# Altium schematic symbol library SamacSys.SchLib: 1281 symbols (part 3 of 13)
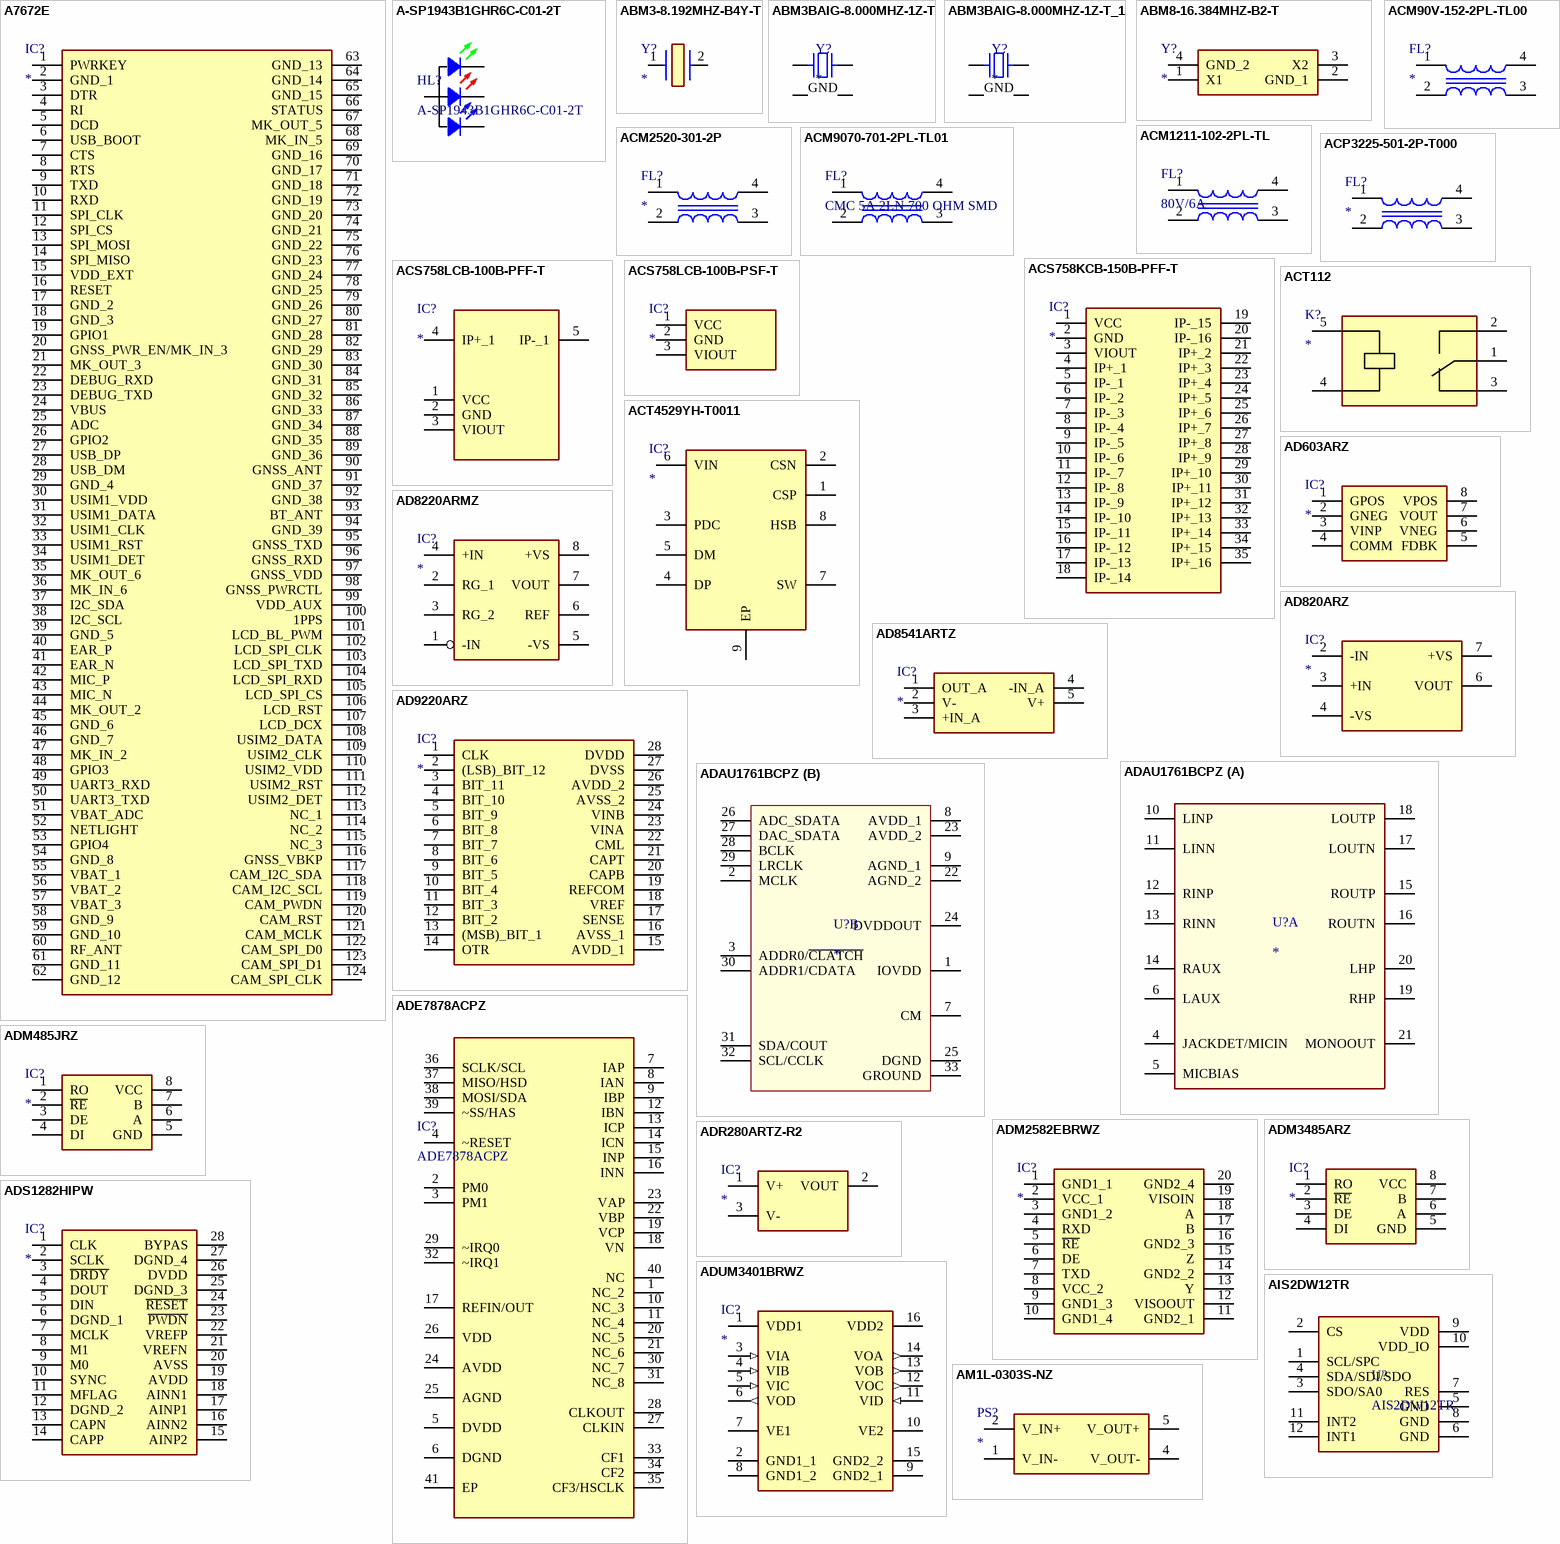
[diagram p49: symbols A7672E to AM1L-0303S-NZ]

## ABM8-16.384MHZ-B2-T
designator Y?
CRYSTAL 16.3840MHZ 18PF SMD; Manufacturer_Name: ABRACON; Manufacturer_Part_Number: ABM8-16.384MHZ-B2-T; Datasheet Link: https://abracon.com/Resonators/abm8.pdf; Height: 0.8mm; Mouser Part Number: 815-ABM8-16.3-B2-T; Mouser Price/Stock: https://www.mouser.com/Search/Refine.aspx?Keyword=815-ABM8-16.3-B2-T; Arrow Part Number: ABM8-16.384MHZ-B2-T; Arrow Price/Stock: https://www.arrow.com/en/products/abm8-16.384mhz-b2-t/abracon
footprint ABM810000MHZ12D2W
pins: 1 X1, 2 GND_1, 3 X2, 4 GND_2

## ACM90V-152-2PL-TL00
designator FL?
CMC 3.6A 2LN 1.5KOHM SMD AECQ200; Manufacturer_Name: TDK; Manufacturer_Part_Number: ACM90V-152-2PL-TL00; Datasheet Link: https://product.tdk.com/system/files/dam/doc/product/emc/emc/cmf_cmc/catalog/cmf_automotive_power_acm90v_en.pdf; Height: 4.5mm; Mouser Part Number: 810-ACM90V1522PLTL00; Mouser Price/Stock: https://www.mouser.co.uk/ProductDetail/TDK/ACM90V-152-2PL-TL00?qs=aP1CjGhiNiEACQpWe48DZw%3D%3D; Arrow Part Number: ACM90V-152-2PL-TL00; Arrow Price/Stock: https://www.arrow.com/en/products/acm90v-152-2pl-tl00/tdk?region=nac
footprint ACM90V1522PLTL00
pins: 1, 2, 3, 4

## ACM1211-102-2PL-TL
designator FL?, comment 80V/6A
CMC 6A 2LN 1 KOHM SURFACE MOUNT; Manufacturer_Name: TDK; Manufacturer_Part_Number: ACM1211-102-2PL-TL; Datasheet Link: https://product.tdk.com/en/system/files?file=dam/doc/product/emc/emc/cmf_cmc/catalog/cmf_commercial_power_acm1211_en.pdf; Height: 6mm; Mouser Part Number: 810-ACM12111022PL-TL; Mouser Price/Stock: https://www.mouser.co.uk/ProductDetail/TDK/ACM1211-102-2PL-TL?qs=ocbKuxF7esQBZME23J%252BWGA%3D%3D
footprint ACM1211
pins: 1, 2, 3, 4

## ACM2520-301-2P
designator FL?
CMC 400MA 2LN 300 OHM SMD; Manufacturer_Name: TDK; Manufacturer_Part_Number: ACM2520-301-2P; Datasheet Link: https://product.tdk.com/info/en/catalog/datasheets/cmf_commercial_signal_acm2520_en.pdf; Height: 1.3mm; Mouser Part Number: 810-ACM2520-301-2P-T; Mouser Price/Stock: https://www.mouser.co.uk/ProductDetail/TDK/ACM2520-301-2P?qs=80T3JVN997BA57SdZHkDRA%3D%3D
footprint ACM25203012P
pins: 1, 2, 3, 4

## ACM9070-701-2PL-TL01
designator FL?, comment CMC 5A 2LN 700 OHM SMD
Manufacturer_Name: TDK; Manufacturer_Part_Number: ACM9070-701-2PL-TL01; Datasheet Link: https://product.tdk.com/system/files/dam/doc/product/emc/emc/cmf_cmc/catalog/cmf_commercial_power_acm9070_en.pdf; Height: 4.5mm; Mouser Part Number: 810-ACM90707012PLTL; Mouser Price/Stock: https://www.mouser.co.uk/ProductDetail/TDK/ACM9070-701-2PL-TL01?qs=vGA93s6UehfkQlsVzBqdDg%3D%3D; Arrow Part Number: ACM9070-701-2PL-TL01; Arrow Price/Stock: https://www.arrow.com/en/products/acm9070-701-2pl-tl01/tdk?region=nac
footprint ACM90707012PLTL01
pins: 1, 2, 3, 4

## ACP3225-501-2P-T000
designator FL?
CMC 2A 2LN 500 OHM SMD; Manufacturer_Name: TDK; Manufacturer_Part_Number: ACP3225-501-2P-T000; Datasheet Link: https://product.tdk.com/system/files/dam/doc/product/emc/emc/cmf_cmc/catalog/cmf_commercial_power_acp3225_en.pdf; Height: 2mm; Mouser Part Number: 810-ACP32255012PT000; Mouser Price/Stock: https://www.mouser.co.uk/ProductDetail/TDK/ACP3225-501-2P-T000?qs=ae3V9ailvLRShxfxfUSgvA%3D%3D; Arrow Part Number: ACP3225-501-2P-T000; Arrow Price/Stock: https://www.arrow.com/en/products/acp3225-501-2p-t000/tdk?region=nac
footprint ACP32251022PT000
pins: 1, 2, 3, 4

## ACS758KCB-150B-PFF-T
designator IC?
CURRENT SENSOR HE/OL 150A 5-CB; Manufacturer_Name: Allegro Microsystems; Manufacturer_Part_Number: ACS758KCB-150B-PFF-T; Datasheet Link: https://www.allegromicro.com/-/media/files/datasheets/acs758-datasheet.ashx; Height: 7.1mm; Mouser Part Number: 250-758KCB150BPFFT; Mouser Price/Stock: https://www.mouser.co.uk/ProductDetail/Allegro-MicroSystems/ACS758KCB-150B-PFF-T?qs=pUKx8fyJudBgqu%2FWnSJV7w%3D%3D; Arrow Part Number: ACS758KCB-150B-PFF-T; Arrow Price/Stock: https://www.arrow.com/en/products/acs758kcb-150b-pff-t/allegro-microsystems?region=nac
footprint ACS772ECB200BPFFT
pins: 1 VCC, 2 GND, 3 VIOUT, 4 IP+_1, 5 IP-_1, 6 IP-_2, 7 IP-_3, 8 IP-_4, 9 IP-_5, 10 IP-_6, 11 IP-_7, 12 IP-_8, 13 IP-_9, 14 IP-_10, 15 IP-_11, 16 IP-_12, 17 IP-_13, 18 IP-_14, 19 IP-_15, 20 IP-_16, 21 IP+_2, 22 IP+_3, 23 IP+_4, 24 IP+_5, 25 IP+_6, 26 IP+_7, 27 IP+_8, 28 IP+_9, 29 IP+_10, 30 IP+_11, 31 IP+_12, 32 IP+_13, 33 IP+_14, 34 IP+_15, 35 IP+_16

## ACS758LCB-100B-PFF-T
designator IC?
CURRENT SENSOR HE/OL 100A 5-CB; Manufacturer_Name: Allegro Microsystems; Manufacturer_Part_Number: ACS758LCB-100B-PFF-T; Datasheet Link: https://www.allegromicro.com/-/media/files/datasheets/acs758-datasheet.ashx; Height: 7.1mm; Mouser Part Number: 250-758LCB100BPFFT; Mouser Price/Stock: https://www.mouser.co.uk/ProductDetail/Allegro-MicroSystems/ACS758LCB-100B-PFF-T?qs=pUKx8fyJudA0WtlqV%2Fcrcw%3D%3D; Arrow Part Number: ACS758LCB-100B-PFF-T; Arrow Price/Stock: https://www.arrow.com/en/products/acs758lcb-100b-pff-t/allegro-microsystems?region=nac
footprint ACS772ECB200BPFFT; pin to pad 4>4+6+7+8+9+10+11+12+13+14+15+16+17+18+19+20+21 5>5+22+23+24+25+26+27+28+29+30+31+32+33+34+35+36+37
pins: 1 VCC, 2 GND, 3 VIOUT, 4 IP+_1, 5 IP-_1

## ACS758LCB-100B-PSF-T
designator IC?
Integrated Circuit; Manufacturer_Name: Allegro Microsystems; Manufacturer_Part_Number: ACS758LCB-100B-PSF-T; Datasheet Link: https://www.allegromicro.com/-/media/files/datasheets/acs758-datasheet.ashx; Height: 7.1mm
footprint ACS758LCB100BPSFT
pins: 1 VCC, 2 GND, 3 VIOUT

## ACT112
designator K?
RELAY AUTOMOTIVE SPDT 20A 12V; Manufacturer_Name: Panasonic; Manufacturer_Part_Number: ACT112; Datasheet Link: https://www.panasonic-electric-works.com/pew/eu/downloads/ds_61205_en_ct.pdf; Height: 13.8mm; Mouser Part Number: 769-ACT112; Mouser Price/Stock: https://www.mouser.co.uk/ProductDetail/Panasonic-Industrial-Devices/ACT112?qs=sEN%2FkO1EG6bpxl3iN8ki5w%3D%3D; Arrow Part Number: ACT112; Arrow Price/Stock: https://www.arrow.com/en/products/act112/panasonic?region=nac
footprint ACT112
pins: 1 COM, 2 NO, 3 NC, 4 COIL_1, 5 COIL_2

## ACT4529YH-T0011
designator IC?
IC REG BUCK PROG 3A 8SOP; Manufacturer_Name: Active-Semi; Manufacturer_Part_Number: ACT4529YH-T0011; Datasheet Link: https://componentsearchengine.com/Datasheets/1/ACT4529YH-T0011.pdf; Height: 1.727mm; Mouser Part Number: 107-ACT4529YH-T0011; Mouser Price/Stock: https://www.mouser.com/Search/Refine.aspx?Keyword=107-ACT4529YH-T0011; Arrow Part Number: ACT4529YH-T0011; Arrow Price/Stock: https://www.arrow.com/en/products/act4529yh-t0011/active-semi-inc
footprint SOIC127P600X173-9N
pins: 1 CSP, 2 CSN, 3 PDC, 4 DP, 5 DM, 6 VIN, 7 SW, 8 HSB, 9 EP

## AD603ARZ
designator IC?
IC VARIABLE GAIN 1 CIRCUIT 8SOIC; Manufacturer_Name: Analog Devices; Manufacturer_Part_Number: AD603ARZ; Datasheet Link: http://www.analog.com/static/imported-files/data_sheets/AD603.pdf; Height: 1.75mm; Mouser Part Number: 584-AD603ARZ; Mouser Price/Stock: https://www.mouser.co.uk/ProductDetail/Analog-Devices/AD603ARZ?qs=NmRFExCfTkG1J%2FcwDGZAtw%3D%3D; Arrow Part Number: AD603ARZ; Arrow Price/Stock: https://www.arrow.com/en/products/ad603arz/analog-devices?utm_currency=USD&region=europe
footprint SOIC127P600X175-8N
pins: 1 GPOS, 2 GNEG, 3 VINP, 4 COMM, 5 FDBK, 6 VNEG, 7 VOUT, 8 VPOS

## AD820ARZ
designator IC?
IC OPAMP JFET 1 CIRCUIT 8SOIC; Manufacturer_Name: Analog Devices; Manufacturer_Part_Number: AD820ARZ; Datasheet Link: http://www.analog.com/static/imported-files/data_sheets/AD820.pdf; Height: 1.75mm; Mouser Part Number: 584-AD820ARZ; Mouser Price/Stock: https://www.mouser.co.uk/ProductDetail/Analog-Devices/AD820ARZ?qs=%2FtpEQrCGXCz5MA49ylSgWA%3D%3D; Arrow Part Number: AD820ARZ; Arrow Price/Stock: https://www.arrow.com/en/products/ad820arz/analog-devices?region=nac
footprint SOIC127P600X175-8N
pins: 2 -IN, 3 +IN, 4 -VS, 6 VOUT, 7 +VS

## AD8220ARMZ
designator IC?
IC INST AMP 1 CIRCUIT 8MSOP; Manufacturer_Name: Analog Devices; Manufacturer_Part_Number: AD8220ARMZ; Datasheet Link: http://www.analog.com/static/imported-files/data_sheets/AD8220.pdf; Height: 1.1mm; Mouser Part Number: 584-AD8220ARMZ; Mouser Price/Stock: https://www.mouser.co.uk/ProductDetail/Analog-Devices/AD8220ARMZ?qs=%2FtpEQrCGXCySRYIeTivM6A%3D%3D; Arrow Part Number: AD8220ARMZ; Arrow Price/Stock: https://www.arrow.com/en/products/ad8220armz/analog-devices?region=nac
footprint SOP65P490X110-8N
pins: 1 -IN, 2 RG_1, 3 RG_2, 4 +IN, 5 -VS, 6 REF, 7 VOUT, 8 +VS

## AD8541ARTZ
designator IC?
Integrated Circuit; Manufacturer_Name: Analog Devices; Manufacturer_Part_Number: AD8541ARTZ; Datasheet Link: https://www.analog.com/media/en/technical-documentation/data-sheets/AD8541_8542_8544.pdf; Height: 1.45mm; Mouser Part Number: N/A; Mouser Price/Stock: https://www.mouser.co.uk/ProductDetail/Analog-Devices/AD8541ARTZ?qs=%252BEew9%252B0nqrCjC57Pkc8fXg%3D%3D
footprint SOT95P280X145-5N
pins: 1 OUT_A, 2 V-, 3 +IN_A, 4 -IN_A, 5 V+

## AD9220ARZ
designator IC?
IC ADC 12BIT 28-SOIC; Manufacturer_Name: Analog Devices; Manufacturer_Part_Number: AD9220ARZ; Datasheet Link: https://datasheet.datasheetarchive.com/originals/distributors/Datasheets-4/DSA-69075.pdf; Height: 2.65mm; Mouser Part Number: 584-AD9220ARZ; Mouser Price/Stock: https://www.mouser.co.uk/ProductDetail/Analog-Devices/AD9220ARZ?qs=%2FtpEQrCGXCy11bvQnCe8cA%3D%3D; Arrow Part Number: AD9220ARZ; Arrow Price/Stock: https://www.arrow.com/en/products/ad9220arz/analog-devices?utm_currency=USD&region=nac
footprint SOIC127P1032X265-28N
pins: 1 CLK, 2 (LSB)_BIT_12, 3 BIT_11, 4 BIT_10, 5 BIT_9, 6 BIT_8, 7 BIT_7, 8 BIT_6, 9 BIT_5, 10 BIT_4, 11 BIT_3, 12 BIT_2, 13 (MSB)_BIT_1, 14 OTR, 15 AVDD_1, 16 AVSS_1, 17 SENSE, 18 VREF, 19 REFCOM, 20 CAPB, 21 CAPT, 22 CML, 23 VINA, 24 VINB, 25 AVSS_2, 26 AVDD_2, 27 DVSS, 28 DVDD

## ADAU1761BCPZ
designator U?
IC SIGMADSP CODEC PLL 32LFCSP; Manufacturer_Name: Analog Devices; Manufacturer_Part_Number: ADAU1761BCPZ; Datasheet Link: http://www.analog.com/static/imported-files/data_sheets/ADAU1761.pdf; Height: 1mm; Mouser Part Number: 584-ADAU1761BCPZ; Mouser Price/Stock: https://www.mouser.co.uk/ProductDetail/Analog-Devices/ADAU1761BCPZ?qs=BpaRKvA4VqECOs97DVLeWA%3D%3D; Arrow Part Number: ADAU1761BCPZ; Arrow Price/Stock: https://www.arrow.com/en/products/adau1761bcpz/analog-devices
footprint QFN50P500X500X100-33N-D
part A pins: 4 JACKDET/MICIN, 5 MICBIAS, 6 LAUX, 10 LINP, 11 LINN, 12 RINP, 13 RINN, 14 RAUX, 15 ROUTP, 16 ROUTN, 17 LOUTN, 18 LOUTP, 19 RHP, 20 LHP, 21 MONOOUT
part B pins: 1 IOVDD, 2 MCLK, 3 ADDR0/~{CLATCH}, 7 CM, 8 AVDD_1, 9 AGND_1, 22 AGND_2, 23 AVDD_2, 24 DVDDOUT, 25 DGND, 26 ADC_SDATA, 27 DAC_SDATA, 28 BCLK, 29 LRCLK, 30 ADDR1/CDATA, 31 SDA/COUT, 32 SCL/CCLK, 33 GROUND

## ADE7878ACPZ
designator IC?
IC ENERGY METERING 3PH 40LFCSP; Manufacturer_Name: Analog Devices; Datasheet Link: https://www.analog.com/static/imported-files/data_sheets/ADE7854_7858_7868_7878.pdf; Manufacturer_Part_Number: ADE7878ACPZ
footprint QFN50P600X600X80-41N
pins: 1 NC_2, 2 PM0, 3 PM1, 4 ~RESET, 5 DVDD, 6 DGND, 7 IAP, 8 IAN, 9 IBP, 10 NC_3, 11 NC_4, 12 IBN, 13 ICP, 14 ICN, 15 INP, 16 INN, 17 REFIN/OUT, 18 VN, 19 VCP, 20 NC_5, 21 NC_6, 22 VBP, 23 VAP, 24 AVDD, 25 AGND, 26 VDD, 27 CLKIN, 28 CLKOUT, 29 ~IRQ0, 30 NC_7, 31 NC_8, 32 ~IRQ1, 33 CF1, 34 CF2, 35 CF3/HSCLK, 36 SCLK/SCL, 37 MISO/HSD, 38 MOSI/SDA, 39 ~SS/HAS, 40 NC, 41 EP

## ADM485JRZ
designator IC?
IC TRANSCEIVER HALF 1/1 8SOIC; Manufacturer_Name: Analog Devices; Manufacturer_Part_Number: ADM485JRZ; Datasheet Link: http://www.analog.com/media/en/technical-documentation/data-sheets/ADM485.pdf; Height: 1.75mm; Mouser Part Number: 584-ADM485JRZ; Mouser Price/Stock: https://www.mouser.co.uk/ProductDetail/Analog-Devices/ADM485JRZ?qs=BpaRKvA4VqEZOGREW%252B%2F6Lg%3D%3D; Arrow Part Number: ADM485JRZ; Arrow Price/Stock: https://www.arrow.com/en/products/adm485jrz/analog-devices?region=europe
footprint SOIC127P600X175-8N
pins: 1 RO, 2 ~{RE}, 3 DE, 4 DI, 5 GND (power), 6 A, 7 B, 8 VCC (power)

## ADM2582EBRWZ
designator IC?
DG ISO 2.5KV 2CH RS422 20-SOIC; Manufacturer_Name: Analog Devices; Manufacturer_Part_Number: ADM2582EBRWZ; Datasheet Link: http://www.analog.com/static/imported-files/data_sheets/ADM2582E_2587E.pdf; Height: 2.65mm; Mouser Part Number: 584-ADM2582EBRWZ; Mouser Price/Stock: https://www.mouser.co.uk/ProductDetail/Analog-Devices/ADM2582EBRWZ?qs=BpaRKvA4VqEUmXw45IunQg%3D%3D; Arrow Part Number: ADM2582EBRWZ; Arrow Price/Stock: https://www.arrow.com/en/products/adm2582ebrwz/analog-devices?region=nac
footprint SOIC127P1032X265-20N
pins: 1 GND1_1, 2 VCC_1, 3 GND1_2, 4 RXD, 5 ~{RE}, 6 DE, 7 TXD, 8 VCC_2, 9 GND1_3, 10 GND1_4, 11 GND2_1, 12 VISOOUT, 13 Y, 14 GND2_2, 15 Z, 16 GND2_3, 17 B, 18 A, 19 VISOIN, 20 GND2_4

## ADM3485ARZ
designator IC?
IC TRANSCEIVER HALF 1/1 8SOIC; Manufacturer_Name: Analog Devices; Manufacturer_Part_Number: ADM3485ARZ; Datasheet Link: https://datasheet.datasheetarchive.com/originals/distributors/SFDatasheet-4/sf-00085393.pdf; Height: 1.75mm; Mouser Part Number: 584-ADM3485ARZ; Mouser Price/Stock: https://www.mouser.co.uk/ProductDetail/Analog-Devices/ADM3485ARZ?qs=BpaRKvA4VqFcLMPh5cVl%252BQ%3D%3D; Arrow Part Number: ADM3485ARZ; Arrow Price/Stock: https://www.arrow.com/en/products/adm3485arz/analog-devices?region=nac
footprint SOIC127P600X175-8N
pins: 1 RO, 2 ~{RE}, 3 DE, 4 DI, 5 GND, 6 A, 7 B, 8 VCC

## ADR280ARTZ-R2
designator IC?
IC VREF SERIES 0.4% SOT23-3; Manufacturer_Name: Analog Devices; Manufacturer_Part_Number: ADR280ARTZ-R2; Datasheet Link: https://datasheet.datasheetarchive.com/originals/distributors/Datasheets-4/DSA-69798.pdf; Height: 1.12mm; Mouser Part Number: 584-ADR280ARTZ-R2; Mouser Price/Stock: https://www.mouser.co.uk/ProductDetail/Analog-Devices/ADR280ARTZ-R2?qs=WIvQP4zGanjt6CxkfGppYQ%3D%3D; Arrow Part Number: ADR280ARTZ-R2; Arrow Price/Stock: https://www.arrow.com/en/products/adr280artz-r2/analog-devices
footprint SOT95P237X112-3N
pins: 1 V+, 2 VOUT, 3 V-

## ADS1282HIPW
designator IC?
IC ADC 31BIT 28-TSSOP; Manufacturer_Name: Texas Instruments; Manufacturer_Part_Number: ADS1282HIPW; Datasheet Link: https://www.arrow.com/en/products/ads1282hipw/texas-instruments; Height: 1.2mm; Mouser Part Number: 595-ADS1282HIPW; Mouser Price/Stock: https://www.mouser.co.uk/ProductDetail/Texas-Instruments/ADS1282HIPW?qs=q7C8cbBu1SuIofeJHyiP4Q%3D%3D; Arrow Part Number: ADS1282HIPW; Arrow Price/Stock: https://www.arrow.com/en/products/ads1282hipw/texas-instruments?region=nac
footprint SOP65P640X120-28N
pins: 1 CLK, 2 SCLK, 3 ~{DRDY}, 4 DOUT, 5 DIN, 6 DGND_1, 7 MCLK, 8 M1, 9 M0, 10 SYNC, 11 MFLAG, 12 DGND_2, 13 CAPN, 14 CAPP, 15 AINP2, 16 AINN2, 17 AINP1, 18 AINN1, 19 AVDD, 20 AVSS, 21 VREFN, 22 VREFP, 23 ~{PWDN}, 24 ~{RESET}, 25 DGND_3, 26 DVDD, 27 DGND_4, 28 BYPAS

## ADUM3401BRWZ
designator IC?
DGTL ISOLTR 2.5KV 4CH GP 16-SOIC; Manufacturer_Name: Analog Devices; Manufacturer_Part_Number: ADUM3401BRWZ; Datasheet Link: https://www.analog.com/media/en/technical-documentation/data-sheets/ADUM3400_3401_3402.pdf; Height: 2.65mm; Mouser Part Number: 584-ADUM3401BRWZ; Mouser Price/Stock: https://www.mouser.co.uk/ProductDetail/Analog-Devices/ADUM3401BRWZ?qs=WIvQP4zGania91kS8CV22w%3D%3D; Arrow Part Number: ADUM3401BRWZ; Arrow Price/Stock: https://www.arrow.com/en/products/adum3401brwz/analog-devices?region=europe
footprint SOIC127P1032X265-16N
pins: 1 VDD1, 2 GND1_1, 3 VIA (in), 4 VIB (in), 5 VIC (in), 6 VOD (out), 7 VE1, 8 GND1_2, 9 GND2_1, 10 VE2, 11 VID (in), 12 VOC (out), 13 VOB (out), 14 VOA (out), 15 GND2_2, 16 VDD2

## AIS2DW12TR
designator U?
MEMS DIGITAL OUTPUT MOTION SENSO; Manufacturer_Name: Texas Instruments; Manufacturer_Part_Number: BQ27220YZFR; Datasheet Link: http://www.ti.com/lit/ds/symlink/bq27220.pdf; Height: 0.625mm; Mouser Part Number: 595-BQ27220YZFR; Mouser Price/Stock: https://www.mouser.co.uk/ProductDetail/Texas-Instruments/BQ27220YZFR/?qs=dSktwyqbRaX%252B5G1xe9oNWw%3D%3D; Arrow Part Number: BQ27220YZFR; Arrow Price/Stock: https://www.arrow.com/en/products/bq27220yzfr/texas-instruments
footprint LGA-12
pins: 1 SCL/SPC, 2 CS, 3 SDO/SA0, 4 SDA/SDI/SDO, 5 GND, 6 GND, 7 RES, 8 GND, 9 VDD, 10 VDD_IO, 11 INT2, 12 INT1

## AM1L-0303S-NZ
designator PS?
Power Supply; Manufacturer_Name: aimtec; Manufacturer_Part_Number: AM1L-0303S-NZ; Datasheet Link: http://www.aimtec.com/site/Aimtec/files/Datasheet/HighResolution/AM1L-N-Z.pdf; Height: 6.5mm; Arrow Part Number: AM1L-0303S-NZ; Arrow Price/Stock: https://www.arrow.com/en/products/am1l-0505s-nz/aimtec?region=europe
footprint SOP254P1120X650-8N
pins: 1 V_IN-, 2 V_IN+, 4 V_OUT-, 5 V_OUT+

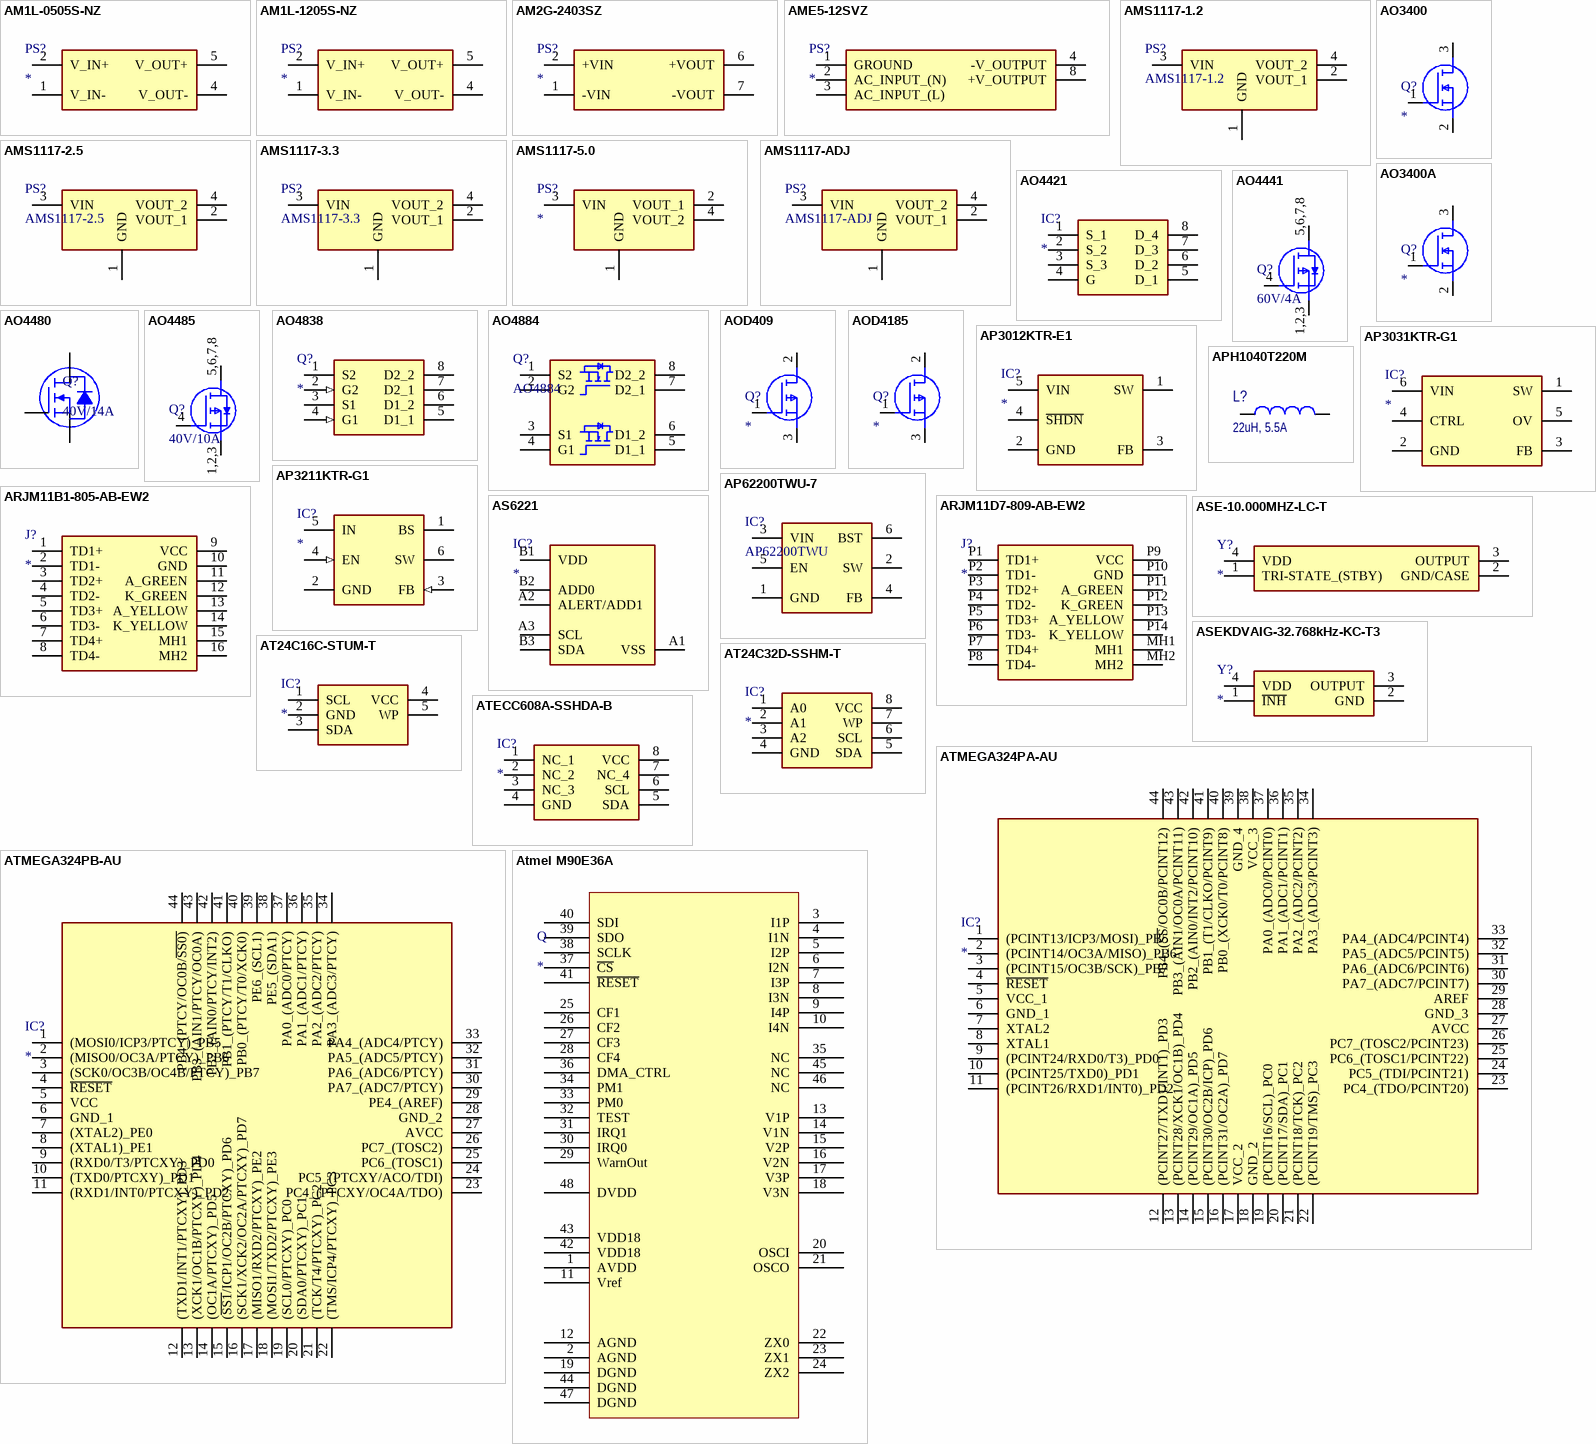
[diagram p8: symbols AM1L-0505S-NZ to Atmel M90E36A]

## AM1L-0505S-NZ
designator PS?
DC DC CONVERTER 5V 1W; Manufacturer_Name: aimtec; Manufacturer_Part_Number: AM1L-0505S-NZ; Datasheet Link: http://www.aimtec.com/site/Aimtec/files/Datasheet/HighResolution/AM1L-N-Z.pdf; Height: 6.5mm; Arrow Part Number: AM1L-0505S-NZ; Arrow Price/Stock: https://www.arrow.com/en/products/am1l-0505s-nz/aimtec?region=europe
footprint SOP254P1120X650-8N
pins: 1 V_IN-, 2 V_IN+, 4 V_OUT-, 5 V_OUT+

## AM1L-1205S-NZ
designator PS?
Power Supply; Manufacturer_Name: aimtec; Manufacturer_Part_Number: AM1L-0505S-NZ; Datasheet Link: http://www.aimtec.com/site/Aimtec/files/Datasheet/HighResolution/AM1L-N-Z.pdf; Height: 6.5mm; Arrow Part Number: AM1L-0505S-NZ; Arrow Price/Stock: https://www.arrow.com/en/products/am1l-0505s-nz/aimtec?region=europe
footprint SOP254P1120X650-8N
pins: 1 V_IN-, 2 V_IN+, 4 V_OUT-, 5 V_OUT+

## AM2G-2403SZ
designator PS?
DC DC CONVERTER 3.3V 1.7W; Manufacturer_Name: Traco Power; Manufacturer_Part_Number: TMH 2403D; Datasheet Link: https://tracopower.com/tmh-datasheet/; Height: 10.45mm; Mouser Part Number: 495-TMH-2405D; Mouser Price/Stock: https://www.mouser.co.uk/ProductDetail/TRACO-Power/TMH-2405D?qs=ckJk83FOD0W%2FmAmjgWBCtw%3D%3D
footprint AIMTEC-AM2G-Z
pins: 1 -VIN, 2 +VIN, 6 +VOUT, 7 -VOUT

## AME5-12SVZ
designator PS?
Power Supply; Manufacturer_Name: aimtec; Manufacturer_Part_Number: AME5-12SVZ; Datasheet Link: https://4donline.ihs.com/images/VipMasterIC/IC/AIMT/AIMT-S-A0007965935/AIMT-S-A0007965935-1.pdf?hkey=EF798316E3902B6ED9A73243A3159BB0; Height: 21mm
footprint AME512SVZ
pins: 1 GROUND, 2 AC_INPUT_(N), 3 AC_INPUT_(L), 4 -V_OUTPUT, 8 +V_OUTPUT

## AMS1117-1.2
designator PS?
IC REG LINEAR 1.2V 1A SOT-223-3L; Manufacturer_Name: Advanced Monolithic Systems; Datasheet Link: http://www.advanced-monolithic.com/pdf/ds1117.pdf; Height: 1.8mm; Manufacturer_Part_Number: AMS1117-1.2
footprint SOT229P700X180-4N
pins: 1 GND, 2 VOUT_1, 3 VIN, 4 VOUT_2

## AMS1117-2.5
designator PS?
IC REG LINEAR 2.5V 1A SOT-223-3L; Manufacturer_Name: Advanced Monolithic Systems; Datasheet Link: http://www.advanced-monolithic.com/pdf/ds1117.pdf; Height: 1.8mm; Manufacturer_Part_Number: AMS1117-2.5
footprint SOT229P700X180-4N
pins: 1 GND, 2 VOUT_1, 3 VIN, 4 VOUT_2

## AMS1117-3.3
designator PS?
LDO regulator; Manufacturer_Name: Advanced Monolithic Systems; Datasheet Link: http://www.advanced-monolithic.com/pdf/ds1117.pdf; Height: 1.8mm; Manufacturer_Part_Number: AMS1117-3.3
footprint SOT229P700X180-4N
pins: 1 GND, 2 VOUT_1, 3 VIN, 4 VOUT_2

## AMS1117-5.0
designator PS?
IC REG LINEAR 5.1V 1A SOT-223-3L; Manufacturer_Name: Advanced Monolithic Systems; Manufacturer_Part_Number: AMS1117-5.0; Datasheet Link: http://www.advanced-monolithic.com/pdf/ds1117.pdf; Height: 1.8mm
footprint SOT230P700X180-4N
pins: 1 GND, 2 VOUT_1, 3 VIN, 4 VOUT_2

## AMS1117-ADJ
designator PS?
IC REG LINEAR 10.7V 1A SOT-223-3; Manufacturer_Name: Advanced Monolithic Systems; Datasheet Link: http://www.advanced-monolithic.com/pdf/ds1117.pdf; Height: 1.8mm; Manufacturer_Part_Number: AMS1117-ADJ
footprint SOT229P700X180-4N
pins: 1 GND, 2 VOUT_1, 3 VIN, 4 VOUT_2

## AO3400
designator Q?
MOSFET N-CH 30V 5.8A SOT23-3; Manufacturer_Name: Alpha & Omega Semiconductors; Manufacturer_Part_Number: AO3400; Datasheet Link: http://aosmd.com/res/data_sheets/AO3400.pdf; Height: 1.25mm; Arrow Part Number: AO3400; Arrow Price/Stock: https://www.arrow.com/en/products/ao3400/alpha-and-omega-semiconductor?region=asia
footprint SOT95P280X125-3N
pins: 1 G, 2 S, 3 D

## AO3400A
designator Q?
MOSFET (N-Channel); Manufacturer_Name: Alpha & Omega Semiconductors; Manufacturer_Part_Number: AO3400A; Datasheet Link: http://aosmd.com/res/data_sheets/AO3400A.pdf; Height: 1.25mm; Arrow Part Number: AO3400A; Arrow Price/Stock: https://www.arrow.com/en/products/ao3400a/alpha-and-omega-semiconductor?region=nac
footprint SOT95P280X125-3N
pins: 1 G, 2 S, 3 D

## AO4421
designator IC?
MOSFET P-CH 60V 6.2A 8SOIC; Manufacturer_Name: Alpha & Omega Semiconductors; Manufacturer_Part_Number: AO4421; Datasheet Link: http://www.aosmd.com/res/data_sheets/AO4421.pdf; Height: 1.75mm; Arrow Part Number: AO4421; Arrow Price/Stock: https://www.arrow.com/en/products/ao4421/alpha-and-omega-semiconductor?region=nac
footprint SOIC127P600X175-8N
pins: 1 S_1, 2 S_2, 3 S_3, 4 G, 5 D_1, 6 D_2, 7 D_3, 8 D_4

## AO4441
designator Q?, comment 60V/4A
MOSFET P-CH 60V 4A 8SOIC; Manufacturer_Name: Alpha Omega; Manufacturer_Part_Number: AO4441; Datasheet Link: https://static.chipdip.ru/lib/827/DOC029827308.pdf; Height: 1.75mm
footprint SOIC127P600X175-8N
pins: 1,2,3 S, 4 G, 5,6,7,8 D

## AO4480
designator Q?, comment 40V/14A
MOSFET N-CH 40V 14A 8SOIC; Manufacturer_Name: Alpha & Omega Semiconductors; Manufacturer_Part_Number: AO4480; Datasheet Link: https://4donline.ihs.com/images/VipMasterIC/IC/ALOM/ALOMS01583/ALOMS01583-1.pdf?hkey=EF798316E3902B6ED9A73243A3159BB0; Height: 1.75mm; Arrow Part Number: AO4480; Arrow Price/Stock: https://www.arrow.com/en/products/ao4480/alpha-and-omega-semiconductor
footprint SOIC127P600X175-8N; pin to pad 1>1+2+3 5>5+6+7+8
pins: 1 S, 4 G, 5 D

## AO4485
designator Q?, comment 40V/10A
MOSFET P-CH 40V 10A 8SOIC; Manufacturer_Name: Alpha Omega; Manufacturer_Part_Number: AO4485; Datasheet Link: https://static.chipdip.ru/lib/827/DOC029827308.pdf; Height: 1.75mm
footprint SOIC127P600X175-8N
pins: 1,2,3 S, 4 G, 5,6,7,8 D

## AO4838
designator Q?
MOSFET (N-Channel); Manufacturer_Name: Alpha & Omega Semiconductors; Manufacturer_Part_Number: AO4838; Datasheet Link: https://www.arrow.com/en/products/ao4838/alpha-and-omega-semiconductor; Height: 1.75mm; Arrow Part Number: AO4838; Arrow Price/Stock: https://www.arrow.com/en/products/ao4838/alpha-and-omega-semiconductor
footprint SOIC127P600X175-8N
pins: 1 S2, 2 G2 (in), 3 S1, 4 G1 (in), 5 D1_1, 6 D1_2, 7 D2_1, 8 D2_2

## AO4884
designator Q?
MOSFET (N-Channel); Manufacturer_Name: Alpha & Omega Semiconductors; Datasheet Link: http://aosmd.com/res/data_sheets/AO4884.pdf; Height: 1.8mm; Manufacturer_Part_Number: AO4884; Arrow Part Number: AO4884; Arrow Price/Stock: https://www.arrow.com/en/products/ao4884/alpha-and-omega-semiconductor
footprint SOIC127P600X180-8N
pins: 1 S2, 2 G2, 3 S1, 4 G1, 5 D1_1, 6 D1_2, 7 D2_1, 8 D2_2

## AOD409
designator Q?
MOSFET (P-Channel); Manufacturer_Name: Alpha & Omega Semiconductors; Manufacturer_Part_Number: AOD409; Datasheet Link: http://www.aosmd.com/res/data_sheets/AOD409.pdf; Height: 2.4mm; Arrow Part Number: AOD409; Arrow Price/Stock: https://www.arrow.com/en/products/aod409/alpha-and-omega-semiconductor.html?utm_currency=USD&region=europe
footprint AOD409
pins: 1 G, 2 D, 3 S

## AOD4185
designator Q?
MOSFET (P-Channel); Manufacturer_Name: Alpha & Omega Semiconductors; Manufacturer_Part_Number: AOD4185; Datasheet Link: http://aosmd.com/res/data_sheets/AOD4185.pdf; Height: 2.4mm; Arrow Part Number: AOD4185; Arrow Price/Stock: https://www.arrow.com/en/products/aod4185/alpha-and-omega-semiconductor.html?utm_currency=USD&region=nac
footprint AOD4185
pins: 1 G, 2 D, 3 S

## AP3012KTR-E1
designator IC?
IC REG BOOST ADJ 500MA SOT23-5; Manufacturer_Name: Diodes Incorporated; Manufacturer_Part_Number: AP3012KTR-E1; Datasheet Link: https://www.diodes.com//assets/Datasheets/AP3012.pdf; Height: 1.45mm; Mouser Part Number: 621-AP3012KTR-E1; Mouser Price/Stock: https://www.mouser.co.uk/ProductDetail/Diodes-Incorporated/AP3012KTR-E1?qs=x6A8l6qLYDA%252BnDfbp2tKKw%3D%3D; Arrow Part Number: AP3012KTR-E1; Arrow Price/Stock: https://www.arrow.com/en/products/ap3012ktr-e1/diodes-incorporated?utm_currency=USD&region=nac
footprint SOT95P282X145-5N
pins: 1 SW, 2 GND, 3 FB, 4 ~{SHDN}, 5 VIN

## AP3031KTR-G1
designator IC?
IC LED DRVR RGLTR PWM TSOT23-6; Manufacturer_Name: BCD; Manufacturer_Part_Number: AP3031KTR-G1; Datasheet Link: https://4donline.ihs.com/images/VipMasterIC/IC/BCDS/BCDSS00706/BCDSS00706-1.pdf?hkey=EF798316E3902B6ED9A73243A3159BB0; Height: 1.45mm
footprint SOT95P280X145-6N
pins: 1 SW, 2 GND, 3 FB, 4 CTRL, 5 OV, 6 VIN

## AP3211KTR-G1
designator IC?
IC REG BUCK ADJ 1.5A SOT23-6; Manufacturer_Name: Diodes Inc.; Manufacturer_Part_Number: AP3211KTR-G1; Datasheet Link: https://componentsearchengine.com/Datasheets/1/AP3211KTR-G1.pdf; Height: 1.45mm; Mouser Part Number: 621-AP3211KTR-G1; Mouser Price/Stock: https://www.mouser.co.uk/ProductDetail/Diodes-Incorporated/AP3211KTR-G1?qs=x6A8l6qLYDBtUEamkYz8cA%3D%3D; Arrow Part Number: AP3211KTR-G1; Arrow Price/Stock: https://www.arrow.com/en/products/ap3211ktr-g1/diodes-incorporated?region=nac
footprint SOT95P280X145-6N
pins: 1 BS, 2 GND (power), 3 FB (in), 4 EN (in), 5 IN (power), 6 SW (power)

## AP62200TWU-7
designator IC?, comment AP62200TWU
IC REG BUCK ADJ 2A TSOT26; Manufacturer_Name: Diodes Incorporated; Manufacturer_Part_Number: AP62200TWU-7; Datasheet Link: https://www.diodes.com//assets/Datasheets/AP62200_AP62201_AP62200T.pdf; Height: 1mm; Mouser Part Number: 621-AP62200TWU-7; Mouser Price/Stock: https://www.mouser.co.uk/ProductDetail/Diodes-Incorporated/AP62200TWU-7?qs=W%2FMpXkg%252BdQ422Gj5lLdoAg%3D%3D; Arrow Part Number: AP62200TWU-7; Arrow Price/Stock: https://www.arrow.com/en/products/ap62200twu-7/diodes-incorporated.html?utm_currency=USD&region=nac
footprint SOT95P280X100-6N
pins: 1 GND, 2 SW, 3 VIN, 4 FB, 5 EN, 6 BST

## APH1040T220M
designator L?, comment 22uH, 5.5A
FIXED IND 22UH 5.5A 0.066OHM SMD; Manufacturer: APV; Manufacturer Part Number: APH1040T220M
footprint INDPM110100X380N (APH1040)
pins: 1, 2

## ARJM11B1-805-AB-EW2
designator J?
CONN JACK 1PORT PCB; Manufacturer_Name: ABRACON; Manufacturer_Part_Number: ARJM11B1-805-AB-EW2; Datasheet Link: https://abracon.com/Magnetics/ARJM11.pdf; Height: 13.75mm; Mouser Part Number: 815-RJM11B1805ABEW2; Mouser Price/Stock: https://www.mouser.co.uk/ProductDetail/ABRACON/ARJM11B1-805-AB-EW2?qs=YCa%2FAAYMW02bp%252BSCNzjdNA%3D%3D; Arrow Part Number: ARJM11B1-805-AB-EW2; Arrow Price/Stock: https://www.arrow.com/en/products/arjm11b1-805-ab-ew2/abracon?region=nac
footprint ARJM11B1805ABEW2
pins: 1 TD1+, 2 TD1-, 3 TD2+, 4 TD2-, 5 TD3+, 6 TD3-, 7 TD4+, 8 TD4-, 9 VCC, 10 GND, 11 A_GREEN, 12 K_GREEN, 13 A_YELLOW, 14 K_YELLOW, 15 MH1, 16 MH2

## ARJM11D7-809-AB-EW2
designator J?
CONN JACK 1PORT PCB; Manufacturer_Name: ABRACON; Manufacturer_Part_Number: ARJM11D7-809-AB-EW2; Datasheet Link: https://abracon.com/Magnetics/ARJM11.pdf; Height: 14.05mm; Mouser Part Number: 815-RJM11D7809ABEW2; Mouser Price/Stock: https://www.mouser.co.uk/ProductDetail/ABRACON/ARJM11D7-809-AB-EW2?qs=YCa%2FAAYMW03gbQ6lIqrJ2w%3D%3D; Arrow Part Number: ARJM11D7-809-AB-EW2; Arrow Price/Stock: null?region=nac
footprint ARJM11D7809ABEW2
pins: MH1, MH2, P1 TD1+, P2 TD1-, P3 TD2+, P4 TD2-, P5 TD3+, P6 TD3-, P7 TD4+, P8 TD4-, P9 VCC, P10 GND, P11 A_GREEN, P12 K_GREEN, P13 A_YELLOW, P14 K_YELLOW

## AS6221
designator IC?
Integrated Circuit; Manufacturer_Name: ams; Manufacturer_Part_Number: AS6221; Datasheet Link: https://ams.com/documents/20143/4379044/AS6221_DS000751_2-00.pdf; Height: 0.6mm
footprint BGA6C40P3X2_149X102X60
pins: A1 VSS, A2 ALERT/ADD1, A3 SCL, B1 VDD, B2 ADD0, B3 SDA

## ASE-10.000MHZ-LC-T
designator Y?
Crystal or Oscillator; Manufacturer_Name: ABRACON; Manufacturer_Part_Number: ASE-10.000MHZ-LC-T; Datasheet Link: https://abracon.com/Oscillators/ASEseries.pdf; Height: 1.2mm; Mouser Part Number: 815-ASE10.000MHZLCT; Mouser Price/Stock: https://www.mouser.co.uk/ProductDetail/ABRACON/ASE-10000MHZ-LC-T?qs=ShQ8XZQtgRupHfFA9Odmpg%3D%3D
footprint ASE24576MHZLCT
pins: 1 TRI-STATE_(STBY), 2 GND/CASE, 3 OUTPUT, 4 VDD

## ASEKDVAIG-32.768kHz-KC-T3
designator Y?
Crystal or Oscillator; Manufacturer_Name: ABRACON; Manufacturer_Part_Number: ASEKDVAIG-32.768kHz-KC-T3; Datasheet Link: https://abracon.com/datasheets/ASEKDVAIG.pdf; Height: 1.2mm; Mouser Part Number: 815-EKDVAIG32768KCT3; Mouser Price/Stock: https://www.mouser.co.uk/ProductDetail/ABRACON/ASEKDVAIG-32.768kHz-KC-T3?qs=vvQtp7zwQdM0ujzQ17QyEA%3D%3D
footprint ASEKDVAIG32768kHzKCT3
pins: 1 ~{INH}, 2 GND, 3 OUTPUT, 4 VDD

## AT24C16C-STUM-T
designator IC?
Integrated Circuit; Manufacturer_Name: Microchip; Manufacturer_Part_Number: AT24C16C-STUM-T; Datasheet Link: https://www.arrow.com/en/products/at24c16c-stum-t/microchip-technology; Height: 1mm; Mouser Part Number: 556-AT24C16C-STUM-T; Mouser Price/Stock: https://www.mouser.co.uk/ProductDetail/Microchip-Technology/AT24C16C-STUM-T?qs=rNaVQffb%252Btdotwy95ME0Uw%3D%3D; Arrow Part Number: AT24C16C-STUM-T; Arrow Price/Stock: https://www.arrow.com/en/products/at24c16c-stum-t/microchip-technology?region=nac
footprint SOT95P275X110-5N
pins: 1 SCL, 2 GND, 3 SDA, 4 VCC, 5 WP

## AT24C32D-SSHM-T
designator IC?
Integrated Circuit; Manufacturer_Name: Microchip; Manufacturer_Part_Number: AT24C32D-SSHM-T; Datasheet Link: http://www.microchip.com/mymicrochip/filehandler.aspx?ddocname=en589557; Height: 1.75mm; Mouser Part Number: 556-AT24C32D-SSHM-T; Mouser Price/Stock: https://www.mouser.co.uk/ProductDetail/Microchip-Technology/AT24C32D-SSHM-T?qs=ZZMt4ii29sMeSpRmcdiSaA%3D%3D; Arrow Part Number: AT24C32D-SSHM-T; Arrow Price/Stock: https://www.arrow.com/en/products/at24c32d-sshm-t/microchip-technology?utm_currency=USD&region=nac
footprint SOIC127P600X175-8N
pins: 1 A0, 2 A1, 3 A2, 4 GND, 5 SDA, 6 SCL, 7 WP, 8 VCC

## ATECC608A-SSHDA-B
designator IC?
Integrated Circuit; Manufacturer_Name: Microchip; Manufacturer_Part_Number: ATECC608A-SSHDA-B; Datasheet Link: http://ww1.microchip.com/downloads/en/DeviceDoc/40001977A.pdf; Height: 1.75mm; Mouser Part Number: 556-ATECC608ASSHDAB; Mouser Price/Stock: https://www.mouser.co.uk/ProductDetail/Microchip-Technology/ATECC608A-SSHDA-B?qs=wd5RIQLrsJj8ay8%2FHpTWlw%3D%3D; Arrow Part Number: ATECC608A-SSHDA-B; Arrow Price/Stock: https://www.arrow.com/en/products/atecc608a-sshda-b/microchip-technology?region=nac
footprint SOIC127P600X175-8N
pins: 1 NC_1, 2 NC_2, 3 NC_3, 4 GND, 5 SDA, 6 SCL, 7 NC_4, 8 VCC

## ATMEGA324PA-AU
designator IC?
Integrated Circuit; Manufacturer_Name: Microchip; Manufacturer_Part_Number: ATMEGA324PA-AU; Datasheet Link: http://www.atmel.com/images/atmel-8272-8-bit-avr-microcontroller-atmega164a_pa-324a_pa-644a_pa-1284_p_summary.pdf; Height: 1.2mm; Mouser Part Number: 556-ATMEGA324PA-AU; Mouser Price/Stock: https://www.mouser.co.uk/ProductDetail/Microchip-Technology/ATMEGA324PA-AU?qs=nE%2FgAoToukF8x6zRHn%252BOug%3D%3D; Arrow Part Number: ATMEGA324PA-AU; Arrow Price/Stock: https://www.arrow.com/en/products/atmega324pa-au/microchip-technology?region=nac
footprint QFP80P1200X1200X120-44N
pins: 1 (PCINT13/ICP3/MOSI)_PB5, 2 (PCINT14/OC3A/MISO)_PB6, 3 (PCINT15/OC3B/SCK)_PB7, 4 ~{RESET}, 5 VCC_1, 6 GND_1, 7 XTAL2, 8 XTAL1, 9 (PCINT24/RXD0/T3)_PD0, 10 (PCINT25/TXD0)_PD1, 11 (PCINT26/RXD1/INT0)_PD2, 12 (PCINT27/TXD1/INT1)_PD3, 13 (PCINT28/XCK1/OC1B)_PD4, 14 (PCINT29/OC1A)_PD5, 15 (PCINT30/OC2B/ICP)_PD6, 16 (PCINT31/OC2A)_PD7, 17 VCC_2, 18 GND_2, 19 (PCINT16/SCL)_PC0, 20 (PCINT17/SDA)_PC1, 21 (PCINT18/TCK)_PC2, 22 (PCINT19/TMS)_PC3, 23 PC4_(TDO/PCINT20), 24 PC5_(TDI/PCINT21), 25 PC6_(TOSC1/PCINT22), 26 PC7_(TOSC2/PCINT23), 27 AVCC, 28 GND_3, 29 AREF, 30 PA7_(ADC7/PCINT7), 31 PA6_(ADC6/PCINT6), 32 PA5_(ADC5/PCINT5), 33 PA4_(ADC4/PCINT4), 34 PA3_(ADC3/PCINT3), 35 PA2_(ADC2/PCINT2), 36 PA1_(ADC1/PCINT1), 37 PA0_(ADC0/PCINT0), 38 VCC_3, 39 GND_4, 40 PB0_(XCK0/T0/PCINT8), 41 PB1_(T1/CLKO/PCINT9), 42 PB2_(AIN0/INT2/PCINT10), 43 PB3_(AIN1/OC0A/PCINT11), 44 PB4_(~{SS}/OC0B/PCINT12)

## ATMEGA324PB-AU
designator IC?
Integrated Circuit; Manufacturer_Name: Microchip; Manufacturer_Part_Number: ATMEGA324PB-AU; Datasheet Link: https://componentsearchengine.com/Datasheets/1/ATMEGA324PB-AU.pdf; Height: 1.2mm; Mouser Part Number: 556-ATMEGA324PBAU; Mouser Price/Stock: https://www.mouser.co.uk/ProductDetail/Microchip-Technology/ATMEGA324PB-AU?qs=%2FPOkb%252BiDxRU4Y0gGbXxEmA%3D%3D; Arrow Part Number: ATMEGA324PB-AU; Arrow Price/Stock: https://www.arrow.com/en/products/atmega324pb-au/microchip-technology?region=nac
footprint QFP80P1200X1200X120-44N
pins: 1 (MOSI0/ICP3/PTCY)_PB5, 2 (MISO0/OC3A/PTCY)_PB6, 3 (SCK0/OC3B/OC4B/PTCY)_PB7, 4 ~{RESET}, 5 VCC, 6 GND_1, 7 (XTAL2)_PE0, 8 (XTAL1)_PE1, 9 (RXD0/T3/PTCXY)_PD0, 10 (TXD0/PTCXY)_PD1, 11 (RXD1/INT0/PTCXY)_PD2, 12 (TXD1/INT1/PTCXY)_PD3, 13 (XCK1/OC1B/PTCXY)_PD4, 14 (OC1A/PTCXY)_PD5, 15 (~{SS1}/ICP1/OC2B/PTCXY)_PD6, 16 (SCK1/XCK2/OC2A/PTCXY)_PD7, 17 (MISO1/RXD2/PTCXY)_PE2, 18 (MOSI1/TXD2/PTCXY)_PE3, 19 (SCL0/PTCXY)_PC0, 20 (SDA0/PTCXY)_PC1, 21 (TCK/T4/PTCXY)_PC2, 22 (TMS/ICP4/PTCXY)_PC3, 23 PC4_(PTCXY/OC4A/TDO), 24 PC5_(PTCXY/ACO/TDI), 25 PC6_(TOSC1), 26 PC7_(TOSC2), 27 AVCC, 28 GND_2, 29 PE4_(AREF), 30 PA7_(ADC7/PTCY), 31 PA6_(ADC6/PTCY), 32 PA5_(ADC5/PTCY), 33 PA4_(ADC4/PTCY), 34 PA3_(ADC3/PTCY), 35 PA2_(ADC2/PTCY), 36 PA1_(ADC1/PTCY), 37 PA0_(ADC0/PTCY), 38 PE5_(SDA1), 39 PE6_(SCL1), 40 PB0_(PTCY/T0/XCK0), 41 PB1_(PTCY/T1/CLKO), 42 PB2_(AIN0/PTCY/INT2), 43 PB3_(AIN1/PTCY/OC0A), 44 PB4_(PTCY/OC0B/~{SS0)}

## Atmel M90E36A
designator Q
Polyphase meter
footprint TQFP48
pins: 1 AVDD, 2 AGND, 3 I1P, 4 I1N, 5 I2P, 6 I2N, 7 I3P, 8 I3N, 9 I4P, 10 I4N, 11 Vref, 12 AGND, 13 V1P, 14 V1N, 15 V2P, 16 V2N, 17 V3P, 18 V3N, 19 DGND, 20 OSCI, 21 OSCO, 22 ZX0, 23 ZX1, 24 ZX2, 25 CF1, 26 CF2, 27 CF3, 28 CF4, 29 WarnOut, 30 IRQ0, 31 IRQ1, 32 TEST, 33 PM0, 34 PM1, 35 NC, 36 DMA_CTRL, 37 ~{CS}, 38 SCLK, 39 SDO, 40 SDI, 41 ~{RESET}, 42 VDD18, 43 VDD18, 44 DGND, 45 NC, 46 NC, 47 DGND, 48 DVDD

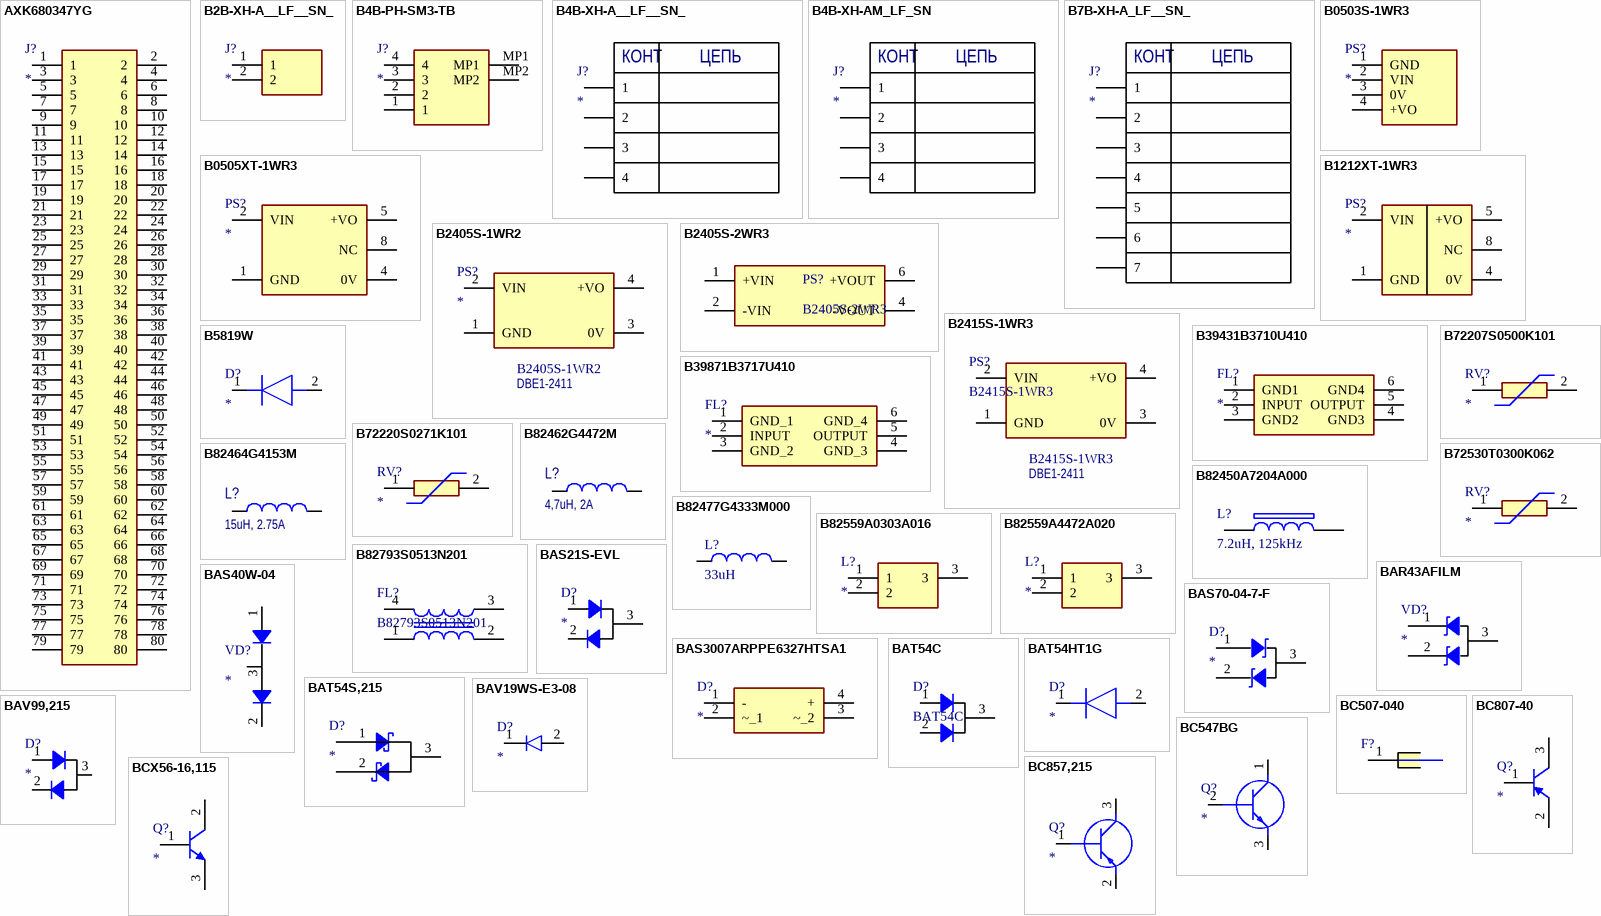
[diagram p9: symbols AXK680347YG to BCX56-16,115]

## AXK680347YG
designator J?
Connector; Manufacturer_Name: Panasonic; Manufacturer_Part_Number: AXK680347YG; Datasheet Link: https://api.pim.na.industrial.panasonic.com/file_stream/main/fileversion/2819; Height: 2.6mm; Mouser Part Number: 769-AXK680347YG; Mouser Price/Stock: https://www.mouser.co.uk/ProductDetail/Panasonic-Industrial-Devices/AXK680347YG?qs=2rFUEsTwVNwVzjyNcPjJHw%3D%3D; Arrow Part Number: AXK680347YG; Arrow Price/Stock: https://www.arrow.com/en/products/axk680347yg/panasonic?region=nac
footprint AXK680347YG
pins: 1, 2, 3, 4, 5, 6, 7, 8, 9, 10, 11, 12, 13, 14, 15, 16, 17, 18, 19, 20, 21, 22, 23, 24, 25, 26, 27, 28, 29, 30, 31, 32, 33, 34, 35, 36, 37, 38, 39, 40, 41, 42, 43, 44, 45, 46, 47, 48, 49, 50, 51, 52, 53, 54, 55, 56, 57, 58, 59, 60, 61, 62, 63, 64, 65, 66, 67, 68, 69, 70, 71, 72, 73, 74, 75, 76, 77, 78, 79, 80

## B2B-XH-A__LF__SN_
designator J?
Connector; Manufacturer_Name: JST (JAPAN SOLDERLESS TERMINALS); Manufacturer_Part_Number: B2B-XH-A (LF)(SN); Datasheet Link: http://www.farnell.com/datasheets/5448.pdf; Height: 7mm
footprint SHDR2W64P0X250_1X2_740X575X700P
pins: 1, 2

## B4B-PH-SM3-TB
designator J?
Connector; Manufacturer_Name: JST (JAPAN SOLDERLESS TERMINALS); Manufacturer_Part_Number: B4B-PH-SM3-TB; Datasheet Link: http://media.digikey.com/pdf/Data%20Sheets/JST%20PDFs/PH%20Series.pdf; Height: 6.6mm
footprint B4BPHSM3TB
pins: 1, 2, 3, 4, MP1, MP2

## B4B-XH-A__LF__SN_
designator J?
Connector; Manufacturer_Name: JST (JAPAN SOLDERLESS TERMINALS); Manufacturer_Part_Number: B4B-XH-A (LF)(SN); Datasheet Link: https://componentsearchengine.com/Datasheets/2/B4B-XH-A (LF)(SN).pdf; Height: 7mm; Arrow Part Number: B4B-XH-A (LF)(SN); Arrow Price/Stock: https://www.arrow.com/en/products/b4b-xh-a-lf-sn/jst-manufacturing?region=europe
footprint SHDR4W64P0X250_1X4_1240X575X700P
pins: 1, 2, 3, 4
text: КОНТ; ЦЕПЬ

## B4B-XH-AM_LF_SN
designator J?
Connector; Manufacturer_Name: JST (JAPAN SOLDERLESS TERMINALS); Manufacturer_Part_Number: B4B-XH-AM (LF)(SN); Replacement: CWF-4*/ WK-04*/ PW10-4-M*/ B4B-XH*; Datasheet Link: http://www.jst-mfg.com/product/pdf/eng/eXH.pdf; Height: 7mm; Arrow Part Number: B4B-XH-AM (LF)(SN); Arrow Price/Stock: https://www.arrow.com/en/products/b4b-xh-am-lf-sn/jst-manufacturing?region=europe
footprint B4BXHAMLFSN
pins: 1, 2, 3, 4
text: КОНТ; ЦЕПЬ

## B7B-XH-A_LF__SN_
designator J?
Connector; Manufacturer_Name: JST (JAPAN SOLDERLESS TERMINALS); Manufacturer_Part_Number: B7B-XH-A(LF)(SN); Datasheet Link: https://datasheet.lcsc.com/szlcsc/JST-Sales-America-B7B-XH-A-LF-SN_C144398.pdf; Height: 7mm; Arrow Part Number: B7B-XH-A(LF)(SN); Arrow Price/Stock: https://www.arrow.com/en/products/b7b-xh-a-lf-sn/jst-manufacturing?region=europe
footprint SHDR7W64P0X250_1X7_1990X575X700P
pins: 1, 2, 3, 4, 5, 6, 7
text: КОНТ; ЦЕПЬ

## B0503S-1WR3
designator PS?
Power Supply; Manufacturer_Name: Mornsun Power; Manufacturer_Part_Number: B0503S-1WR3; Height: 10.41mm
footprint B0503S1WR3
pins: 1 GND, 2 VIN, 3 0V, 4 +VO

## B0505XT-1WR3
designator PS?
Power Supply; Manufacturer_Name: Mornsun Power; Manufacturer_Part_Number: B0505XT-1WR3; Height: 7.5mm
footprint B0505XT1WR3
pins: 1 GND, 2 VIN, 4 0V, 5 +VO, 8 NC

## B1212XT-1WR3
designator PS?
Power Supply; Manufacturer_Name: Morunsun; Manufacturer_Part_Number: B1212XT-1WR3; Datasheet Link: https://www.mornsun-power.com/html/pdf/B1212XT-1WR3.html; Height: 7.5mm
footprint B1212XT1WR3
pins: 1 GND, 2 VIN, 4 0V, 5 +VO, 8 NC

## B2405S-1WR2
designator PS?  Manufacturer_Part_Number: B2405S-1WR2  Manufacturer_Part_Number_1: DBE1-2411
Power Supply; Manufacturer_Name: Mornsun Power; Manufacturer_Name_1: Pairui; Height: 10.16mm
footprint B2405S1WR2
pins: 1 GND, 2 VIN, 3 0V, 4 +VO

## B2405S-2WR3
designator PS?
Power Supply, 2W isolated, SIP-4; Manufacturer: Mornsun; Part Number: B2405S-2WR3; Help URL: https://static.chipdip.ru/lib/800/DOC059800393.pdf; Price Qty: 10; Price: 1.09
footprint A_S-2WR3_B_S-2WR3
pins: 1 +VIN, 2 -VIN, 4 -VOUT, 6 +VOUT

## B2415S-1WR3
designator PS?  Manufacturer_Part_Number_1: DBE1-2411
Power Supply, 24 - 15, 67mA; Manufacturer_Name: Mornsun Power; Manufacturer_Name_1: Pairui; Height: 10.16mm; Manufacturer_Part_Number: B2415S-1WR3
footprint B2405S1WR2
pins: 1 GND, 2 VIN, 3 0V, 4 +VO

## B5819W
designator D?
Diode; Manufacturer_Name: Changjiang Electronics Tech (CJ); Manufacturer_Part_Number: B5819W; Datasheet Link: https://datasheet.lcsc.com/szlcsc/Changjiang-Electronics-Tech-CJ-B5819W_C8598.pdf; Height: 1.25mm
footprint SOD3716X125N
pins: 1 K, 2 A

## B39431B3710U410
designator FL?
Filter; Manufacturer_Name: RF360; Manufacturer_Part_Number: B39431B3710U410; Datasheet Link: https://www.mouser.com/datasheet/2/842/B3710-1092478.pdf; Height: 1.225mm; Mouser Part Number: 871-B39431B3710U410; Mouser Price/Stock: https://www.mouser.co.uk/ProductDetail/RF360/B39431B3710U410?qs=hkeJtpWWodAvZBWtdUV7AQ%3D%3D; Arrow Part Number: B39431B3710U410; Arrow Price/Stock: https://www.arrow.com/en/products/b39431b3710u410/qualcomm-rf360-a-qualcomm-tdk-joint-venture?region=nac
footprint B39431B3710U410
pins: 1 GND1, 2 INPUT, 3 GND2, 4 GND3, 5 OUTPUT, 6 GND4

## B39871B3717U410
designator FL?
Filter; Manufacturer_Name: RF360; Manufacturer_Part_Number: B39871B3717U410; Datasheet Link: https://componentsearchengine.com/Datasheets/1/B39871B3717U410.pdf; Height: 1.1mm; Mouser Part Number: 871-B39871B3717U410; Mouser Price/Stock: https://www.mouser.co.uk/ProductDetail/RF360/B39871B3717U410?qs=pGJ4H8VyKtX%2FbRil89q1mQ%3D%3D; Arrow Part Number: B39871B3717U410; Arrow Price/Stock: https://www.arrow.com/en/products/b39871b3717u410/qualcomm-rf360-a-qualcomm-tdk-joint-venture?region=nac
footprint SON120P300X300X110-6N
pins: 1 GND_1, 2 INPUT, 3 GND_2, 4 GND_3, 5 OUTPUT, 6 GND_4

## B72207S0500K101
designator RV?
Varistor; Manufacturer_Name: TDK; Manufacturer_Part_Number: B72207S0500K101; Datasheet Link: https://product.tdk.com/system/files/dam/doc/product/protection/voltage/lead-disk-varistor/data_sheet/70/db/var/siov_leaded_standard.pdf; Height: 11mm; Mouser Part Number: 871-B72207S500K101; Mouser Price/Stock: https://www.mouser.co.uk/ProductDetail/EPCOS-TDK/B72207S0500K101?qs=dEfas%2FXlABL7N8JNYeSE7Q%3D%3D; Arrow Part Number: B72207S0500K101; Arrow Price/Stock: https://www.arrow.com/en/products/b72207s0500k101/epcos-tdk
footprint B72207S0500K101
pins: 1, 2

## B72220S0271K101
designator RV?
Varistor; Manufacturer_Name: TDK; Manufacturer_Part_Number: B72220S0271K101; Datasheet Link: https://product.tdk.com/system/files/dam/doc/product/protection/voltage/lead-disk-varistor/data_sheet/70/db/var/siov_leaded_standard.pdf; Height: 25.5mm; Mouser Part Number: 871-B72220S271K101; Mouser Price/Stock: https://www.mouser.co.uk/ProductDetail/EPCOS-TDK/B72220S0271K101?qs=dEfas%2FXlABJm%252BgabQzQHxg%3D%3D; Arrow Part Number: B72220S0271K101; Arrow Price/Stock: https://www.arrow.com/en/products/b72220s0271k101/epcos-tdk?region=europe
footprint B72220S0271K101
pins: 1, 2

## B72530T0300K062
designator RV?
Varistor; Manufacturer_Name: TDK; Manufacturer_Part_Number: B72530T0300K062; Datasheet Link: https://www.tdk-electronics.tdk.com/inf/75/db/CTVS_14/Surge_protection_series.pdf?ref_disty=digikey; Height: 1.7mm; Mouser Part Number: N/A; Mouser Price/Stock: https://www.mouser.co.uk/ProductDetail/EPCOS-TDK/B72530T0300K062?qs=dEfas%2FXlABJiFl5nhomwDw%3D%3D
footprint VARC3225X170N (Footprint not found)
pins: 1, 2

## B82450A7204A000
designator L?, comment 7.2uH, 125kHz
RFID Antenna 125kHz; Manufacturer_Name: TDK; Manufacturer_Part_Number: B82450A7204A000; Datasheet Link: https://product.tdk.com/system/files/dam/doc/product/inductor/inductor/transponder/data_sheet/30/db/ind_2008/b82450a_a.pdf; Height: 2.7mm; Mouser Part Number: 871-B82450A7204A000; Mouser Price/Stock: https://www.mouser.co.uk/ProductDetail/EPCOS-TDK/B82450A7204A000?qs=EU6FO9ffTwdkK6S1fDKvEA%3D%3D
footprint B82450A7204E000
pins: 1, 2

## B82462G4472M
designator L?, comment 4,7uH, 2A
IND 4.7uH SHLD 2 A 40mOhm; Manufacturer: VISHAY; Manufacturer Part Number: IHLP4040DZER470M11
footprint B82462G4472M
pins: 1, 2

## B82464G4153M
designator L?, comment 15uH, 2.75A
Inductor; Manufacturer: TDK; Manufacturer Part Number: B82464G4153M
footprint B82464G (Footprint not found)
footprint INDPM104104X480N
pins: 1, 2

## B82477G4333M000
designator L?, comment 33uH
SMT Inductor; Value: 33uH
footprint B82477G (TDK Inductor)
pins: 1, 2

## B82559A0303A016
designator L?
Inductor; Manufacturer_Name: TDK; Manufacturer_Part_Number: B82559A0303A016; Datasheet Link: https://datasheet.datasheetarchive.com/originals/distributors/Datasheets_SAMA/ccde7c3dbb69f5e818f25981216b27f4.pdf; Height: 10.95mm; Mouser Part Number: 871-B82559A0303A016; Mouser Price/Stock: https://www.mouser.co.uk/ProductDetail/EPCOS-TDK/B82559A0303A016?qs=p9T7GgSe1IHMcB14eBFv1A%3D%3D
footprint B82559A0303A016
pins: 1, 2, 3

## B82559A4472A020
designator L?
Inductor; Manufacturer_Name: TDK; Manufacturer_Part_Number: B82559A4472A020; Datasheet Link: https://product.tdk.com/system/files/dam/doc/product/inductor/inductor/smd/data_sheet/30/db/ind_2008/b82559_a020.pdf; Height: 10.2mm; Mouser Part Number: 871-B82559A4472A20; Mouser Price/Stock: https://www.mouser.co.uk/ProductDetail/EPCOS-TDK/B82559A4472A020?qs=%252BEew9%252B0nqrD8teoE0vVQag%3D%3D
footprint B82559A4472A020
pins: 1, 2, 3

## B82793S0513N201
designator FL?
Filter; Manufacturer_Name: TDK; Datasheet Link: https://product.tdk.com/system/files/dam/doc/product/emc/emc/cmf_cmc/catalog/b82793c0_s0.pdf; Height: 4.8mm; Manufacturer_Part_Number: B82793S0513N201; Mouser Part Number: 871-B82793S0513N201; Mouser Price/Stock: https://www.mouser.co.uk/ProductDetail/EPCOS-TDK/B82793S0513N201?qs=pGJ4H8VyKtXd%2FymXrIUWTg%3D%3D; Arrow Part Number: B82793S0513N201; Arrow Price/Stock: https://www.arrow.com/en/products/b82793s0513n201/tdk?region=europe
footprint B82793C0104N201
pins: 1, 2, 3, 4

## BAR43AFILM
designator VD?
Integrated Circuit; Manufacturer_Name: STMicroelectronics; Manufacturer_Part_Number: BAR43AFILM; Datasheet Link: http://www.st.com/web/en/resource/technical/document/datasheet/CD00000764.pdf; Height: 1.5mm; Mouser Part Number: 511-BAR43AFILM; Mouser Price/Stock: https://www.mouser.co.uk/ProductDetail/STMicroelectronics/BAR43AFILM?qs=V1woAGgG1aNxI05DoB34wA%3D%3D; Arrow Part Number: BAR43AFILM; Arrow Price/Stock: https://www.arrow.com/en/products/bar43afilm/stmicroelectronics
footprint SOT105P242X150-3N
pins: 1 K2, 2 K1, 3 A

## BAS21S-EVL
designator D?
Diode; Manufacturer_Name: Venkel; Manufacturer_Part_Number: BAS21S-EVL; Datasheet Link: https://file.venkel.com/v/SksrXuV1ja2BS40uCppQ; Height: 1.2mm
footprint SOT95P240X120-3N
pins: 1, 2, 3

## BAS40W-04
designator VD?
Diode Schottky 2x, 2 х 0.2A, 40V; Manufacturer_Name: Nexperia; Manufacturer_Part_Number: BAS40W-04; Datasheet Link: https://datasheet.datasheetarchive.com/originals/distributors/Datasheets-301/6211.pdf; Height: 1.1mm; Mouser Part Number: N/A; Mouser Price/Stock: https://www.mouser.com/Search/Refine.aspx?Keyword=N%2FA
footprint SOT65P210X110-3N
pins: 1 A, 2 K, 3 A/K

## BAS70-04-7-F
designator D?
Schottky Diode; Manufacturer_Name: Diodes Inc.; Manufacturer_Part_Number: BAS70-04-7-F; Datasheet Link: https://componentsearchengine.com/Datasheets/2/BAS70-04-7-F.pdf; Height: 1.1mm; Mouser Part Number: 621-BAS70-04-F; Mouser Price/Stock: https://www.mouser.co.uk/ProductDetail/Diodes-Incorporated/BAS70-04-7-F?qs=WYeQwNKOgt9SXNX1Bbf9bg%3D%3D; Arrow Part Number: BAS70-04-7-F; Arrow Price/Stock: https://www.arrow.com/en/products/bas70-04-7-f/diodes-incorporated?region=asia
footprint SOT96P240X110-3N
pins: 1 A, 2 K, 3 A/K

## BAS3007ARPPE6327HTSA1
designator D?
Schottky Diode; Manufacturer_Name: Infineon; Manufacturer_Part_Number: BAS3007ARPPE6327HTSA1; Datasheet Link: https://www.mouser.co.uk/datasheet/2/196/Infineon-BAS3007ASERIES-DS-v01_01-en-1225497.pdf; Mouser Part Number: 726-BAS3007A-RPPE6; Mouser Price/Stock: https://www.mouser.co.uk/ProductDetail/Infineon-Technologies/BAS3007ARPPE6327HTSA1?qs=OwbwYO03UsIpevUvLWxseg%3D%3D; Arrow Part Number: BAS3007ARPPE6327HTSA1; Arrow Price/Stock: https://www.arrow.com/en/products/bas3007arppe6327htsa1/infineon-technologies-ag?region=nac
footprint BF998215
pins: 1 -, 2 ~_1, 3 ~_2, 4 +

## BAT54C
designator D?
Diode; Manufacturer_Name: Diotec; Height: 1.2mm; Manufacturer_Part_Number: BAT54C
footprint SOT95P240X120-3N
pins: 1, 2, 3

## BAT54HT1G
designator D?
Diode; Manufacturer_Name: onsemi; Manufacturer_Part_Number: BAT54HT1G; Datasheet Link: https://www.onsemi.com/pub/Collateral/BAT54HT1-D.PDF; Height: 1.1mm; Mouser Part Number: 863-BAT54HT1G; Mouser Price/Stock: https://www.mouser.co.uk/ProductDetail/onsemi/BAT54HT1G?qs=vLkC5FC1VN%252BK3ZQA%252ByHPIA%3D%3D; Arrow Part Number: BAT54HT1G; Arrow Price/Stock: https://www.arrow.com/en/products/bat54ht1g/on-semiconductor?utm_currency=USD&region=europe
footprint SOD2713X115N
pins: 1 K, 2 A

## BAT54S,215
designator D?
Schottky Diode; Manufacturer_Name: Nexperia; Manufacturer_Part_Number: BAT54S,215; Datasheet Link: https://assets.nexperia.com/documents/data-sheet/BAT54S.pdf; Height: 1.1mm; Mouser Part Number: 771-BAT54S-T/R; Mouser Price/Stock: https://www.mouser.co.uk/ProductDetail/Nexperia/BAT54S215?qs=me8TqzrmIYVOaf3j7zH0Wg%3D%3D; Arrow Part Number: BAT54S,215; Arrow Price/Stock: https://www.arrow.com/en/products/bat54s215/nexperia?utm_currency=USD&region=europe
footprint SOT95P230X110-3N
pins: 1 A1, 2 K2, 3 K1;_A2

## BAV19WS-E3-08
designator D?
Diode; Manufacturer_Name: Vishay; Manufacturer_Part_Number: BAV19WS-E3-08; Datasheet Link: http://www.mouser.com/ds/2/427/bav19ws-10746.pdf; Height: 1.15mm; Mouser Part Number: 78-BAV19WS-E3-08; Mouser Price/Stock: https://www.mouser.co.uk/ProductDetail/Vishay-Semiconductors/BAV19WS-E3-08?qs=bTzheeSci6SHfWR92Bycpw%3D%3D; Arrow Part Number: BAV19WS-E3-08; Arrow Price/Stock: https://www.arrow.com/en/products/bav19ws-e3-08/vishay?region=nac
footprint SOD2713X115N
pins: 1 K, 2 A

## BAV99,215
designator D?
Diode; Manufacturer_Name: Nexperia; Manufacturer_Part_Number: BAV99,215; Datasheet Link: https://assets.nexperia.com/documents/data-sheet/BAV99_SER.pdf; Height: 1.1mm; Mouser Part Number: 771-BAV99-T/R; Mouser Price/Stock: https://www.mouser.co.uk/ProductDetail/Nexperia/BAV99215?qs=me8TqzrmIYWbN0bCKV3n5w%3D%3D; Arrow Part Number: BAV99,215; Arrow Price/Stock: https://www.arrow.com/en/products/bav99215/nexperia?region=nac
footprint BAV99215
pins: 1, 2, 3

## BC507-040
designator F?  (value not drawn)
FUSE HOLDER 5x20mm; Manufacturer_Name: Betterfuse; Datasheet Link: https://static.chipdip.ru/lib/316/DOC050316192.pdf; Manufacturer_Part_Number: BC507-040
footprint BC507-040 (Footprint not found)
pins: 1

## BC547BG
designator Q?
Transistor BJT NPN; Manufacturer_Name: onsemi; Manufacturer_Part_Number: BC547BG; Datasheet Link: https://datasheet.datasheetarchive.com/originals/distributors/Datasheets-23/DSA-455923.pdf; Height: 5.33mm; Mouser Part Number: N/A; Mouser Price/Stock: http://www.mouser.com/Search/ProductDetail.aspx?qs=NSmgnqlvnz5NIKIycfR5CQ%3d%3d; Arrow Part Number: BC547BG; Arrow Price/Stock: http://www.arrow.com/en/products/bc547bg/on-semiconductor
footprint TO-92_(TO-226)
pins: 1 C, 2 B, 3 E

## BC807-40
designator Q?
Transistor BJT NPN; Manufacturer_Name: Nexperia; Manufacturer_Part_Number: BC807-40; Datasheet Link: https://datasheet.datasheetarchive.com/originals/distributors/Datasheets-20/DSA-393375.pdf; Height: 1.1mm; Mouser Part Number: N/A; Mouser Price/Stock: https://www.mouser.co.uk/ProductDetail/Nexperia/BC807-40?qs=vHuUswq2%252Bsx1MCteCt%2F4CA%3D%3D
footprint SOT95P230X110-3N
pins: 1 B, 2 E, 3 C

## BC857,215
designator Q?
Transistor BJT PNP; Manufacturer_Name: Nexperia; Manufacturer_Part_Number: BC857,215; Datasheet Link: https://assets.nexperia.com/documents/data-sheet/BC856_BC857_BC858.pdf; Height: 1.1mm; Arrow Part Number: BC857,215; Arrow Price/Stock: https://www.arrow.com/en/products/bc857215/nexperia?utm_currency=USD&region=nac
footprint SOT95P230X110-3N
pins: 1 B, 2 E, 3 C